# Altium schematic symbol library ESP32C3.SCHLIB: 1 symbol
Pins are listed as number, name and electrical type; pins without a type are passive.

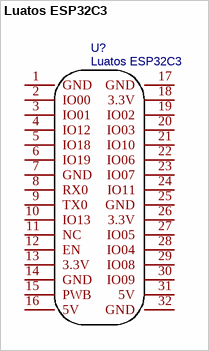
[diagram p0: symbol Luatos ESP32C3]

## Luatos ESP32C3
designator U?
Contributor: KagurazakaTsuki; BOM_Supplier: LUATOS; link: https://wiki.luatos.com/chips/esp32c3/board.html; spicePre: U; spiceSymbolName: Luatos ESP32C3
footprint LUATOS-ESP32C3
pins: 1 GND, 2 IO00, 3 IO01, 4 IO12, 5 IO18, 6 IO19, 7 GND, 8 RX0, 9 TX0, 10 IO13, 11 NC, 12 EN, 13 3.3V, 14 GND, 15 PWB, 16 5V, 17 GND, 18 3.3V, 19 IO02, 20 IO03, 21 IO10, 22 IO06, 23 IO07, 24 IO11, 25 GND, 26 3.3V, 27 IO05, 28 IO04, 29 IO08, 30 IO09, 31 5V, 32 GND